# Altium footprint library Varistor.PcbLib: 102 footprints (part 7 of 7)
Each footprint in its own frame and in the unit in brackets; x right, y up, seen from the top. Pads: shape width x height; smd on the part's side, far side on the other; paste and mask are expansions set on the pad; w line width, h text height; cw(c..) or ccw(c..) is an arc to the next point about the centre after c.
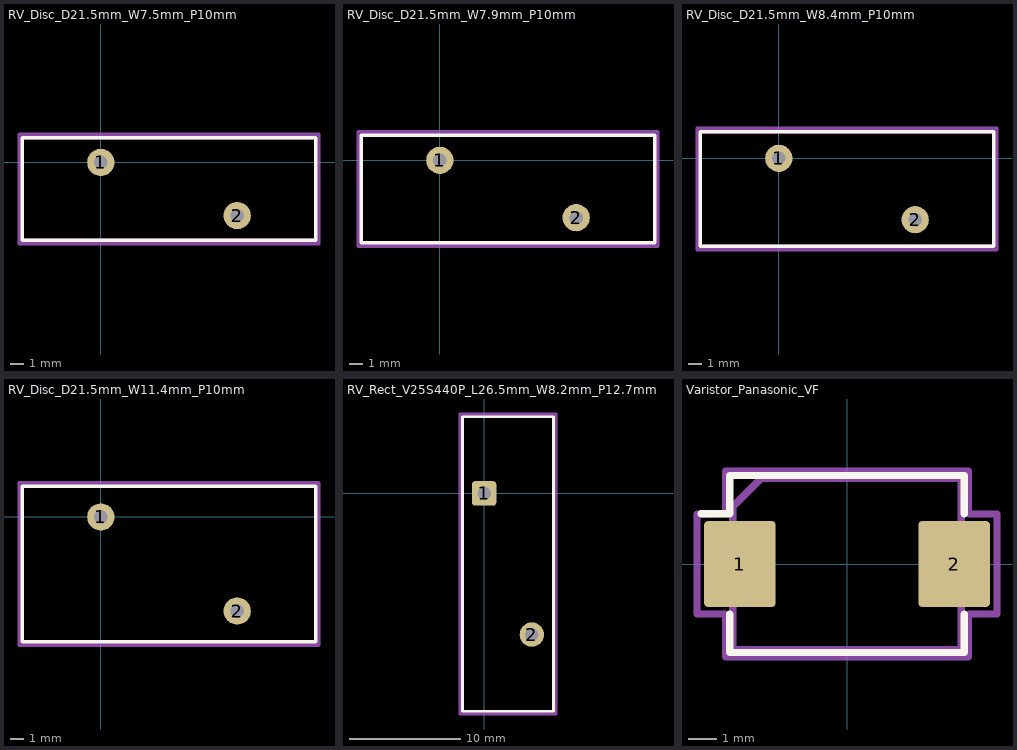
[diagram p6: the footprints below, top view; thin cyan lines are the x and y axes]

## RV_Disc_D21.5mm_W7.5mm_P10mm [mm]
pads (2):
  round 2 hole 1: 1(0,0) 2(10,-3.9)
F.SilkS:
  lines w0.254: -5.75,-5.7 -5.75,1.8 15.75,1.8 15.75,-5.7 -5.75,-5.7
F.Fab:
  lines w0.254: -5.75,-5.7 -5.75,1.8 15.75,1.8 15.75,-5.7 -5.75,-5.7
  text "'.Designator'" at 0.953,-2.79 h1
F.CrtYd:
  lines w0.254: -6,-5.95 -6,2.05 16,2.05 16,-5.95 -6,-5.95
3D body "RV_Disc_D21.5mm_W7.5mm_P10mm.step": height 21.53, standoff -3, extent -5.75,-5.7 15.75,1.8

## RV_Disc_D21.5mm_W7.9mm_P10mm [mm]
pads (2):
  round 2 hole 1: 1(0,0) 2(10,-4.2)
F.SilkS:
  lines w0.254: -5.75,-6.05 -5.75,1.85 15.75,1.85 15.75,-6.05 -5.75,-6.05
F.Fab:
  lines w0.254: -5.75,-6.05 -5.75,1.85 15.75,1.85 15.75,-6.05 -5.75,-6.05
  text "'.Designator'" at 0.953,-2.94 h1
F.CrtYd:
  lines w0.254: -6,-6.3 -6,2.1 16,2.1 16,-6.3 -6,-6.3
3D body "RV_Disc_D21.5mm_W7.9mm_P10mm.step": height 21.53, standoff -3, extent -5.75,-6.05 15.75,1.85

## RV_Disc_D21.5mm_W8.4mm_P10mm [mm]
pads (2):
  round 2 hole 1: 1(0,0) 2(10,-4.5)
F.SilkS:
  lines w0.254: -5.75,-6.45 15.75,-6.45 15.75,1.95 -5.75,1.95 -5.75,-6.45
F.Fab:
  lines w0.254: -5.75,-6.45 15.75,-6.45 15.75,1.95 -5.75,1.95 -5.75,-6.45
  text "'.Designator'" at 0.953,-3.09 h1
F.CrtYd:
  lines w0.254: -6,-6.7 16,-6.7 16,2.2 -6,2.2 -6,-6.7
3D body "RV_Disc_D21.5mm_W8.4mm_P10mm.step": height 21.53, standoff -3, extent -5.75,-6.45 15.75,1.95

## RV_Disc_D21.5mm_W11.4mm_P10mm [mm]
pads (2):
  round 2 hole 1: 1(0,0) 2(10,-6.9)
F.SilkS:
  lines w0.254: -5.75,-9.15 -5.75,2.25 15.75,2.25 15.75,-9.15 -5.75,-9.15
F.Fab:
  lines w0.254: -5.75,-9.15 -5.75,2.25 15.75,2.25 15.75,-9.15 -5.75,-9.15
  text "'.Designator'" at 0.953,-4.29 h1
F.CrtYd:
  lines w0.254: -6,-9.4 -6,2.5 16,2.5 16,-9.4 -6,-9.4
3D body "RV_Disc_D21.5mm_W11.4mm_P10mm.step": height 21.53, standoff -3, extent -5.75,-9.15 15.75,2.25

## RV_Rect_V25S440P_L26.5mm_W8.2mm_P12.7mm [mm]
pads (2):
  rrect25% 2.2x2.2 hole 1.2: 1(0,0)
  round 2.2 hole 1.2: 2(4.3,-12.7)
F.SilkS:
  lines w0.254: -1.95,-19.6 -1.95,6.9 6.25,6.9 6.25,-19.6 -1.95,-19.6
F.Fab:
  lines w0.254: -1.95,-19.6 -1.95,6.9 6.25,6.9 6.25,-19.6 -1.95,-19.6
  text "'.Designator'" at -1.847,-5.84 h1
F.CrtYd:
  lines w0.254: -2.2,-19.85 -2.2,7.15 6.5,7.15 6.5,-19.85 -2.2,-19.85

## Varistor_Panasonic_VF [mm]
pads (2):
  rrect10% 2.5x3 smd: 1(-3.75,0) 2(3.75,0)
F.SilkS:
  lines w0.254: -5.1,1.76 -4.1,1.76 -4.1,3.1 4.1,3.1 4.1,1.76 ; -4.1,-1.76 -4.1,-3.1 4.1,-3.1 4.1,-1.76
F.Fab:
  lines w0.254: -4,-3 -4,2 -3,3 4,3 4,-3 -4,-3
  text "'.Designator'" at -4.047,-0.84 h1
F.CrtYd:
  lines w0.254: -5.25,-1.75 -5.25,1.75 -4.25,1.75 -4.25,3.25 4.25,3.25 4.25,1.75 5.25,1.75 5.25,-1.75 4.25,-1.75 4.25,-3.25 -4.25,-3.25 -4.25,-1.75 -5.25,-1.75